# EAGLE library part ATSAM3S4C/2C/1C_100PIN (library Taylor)
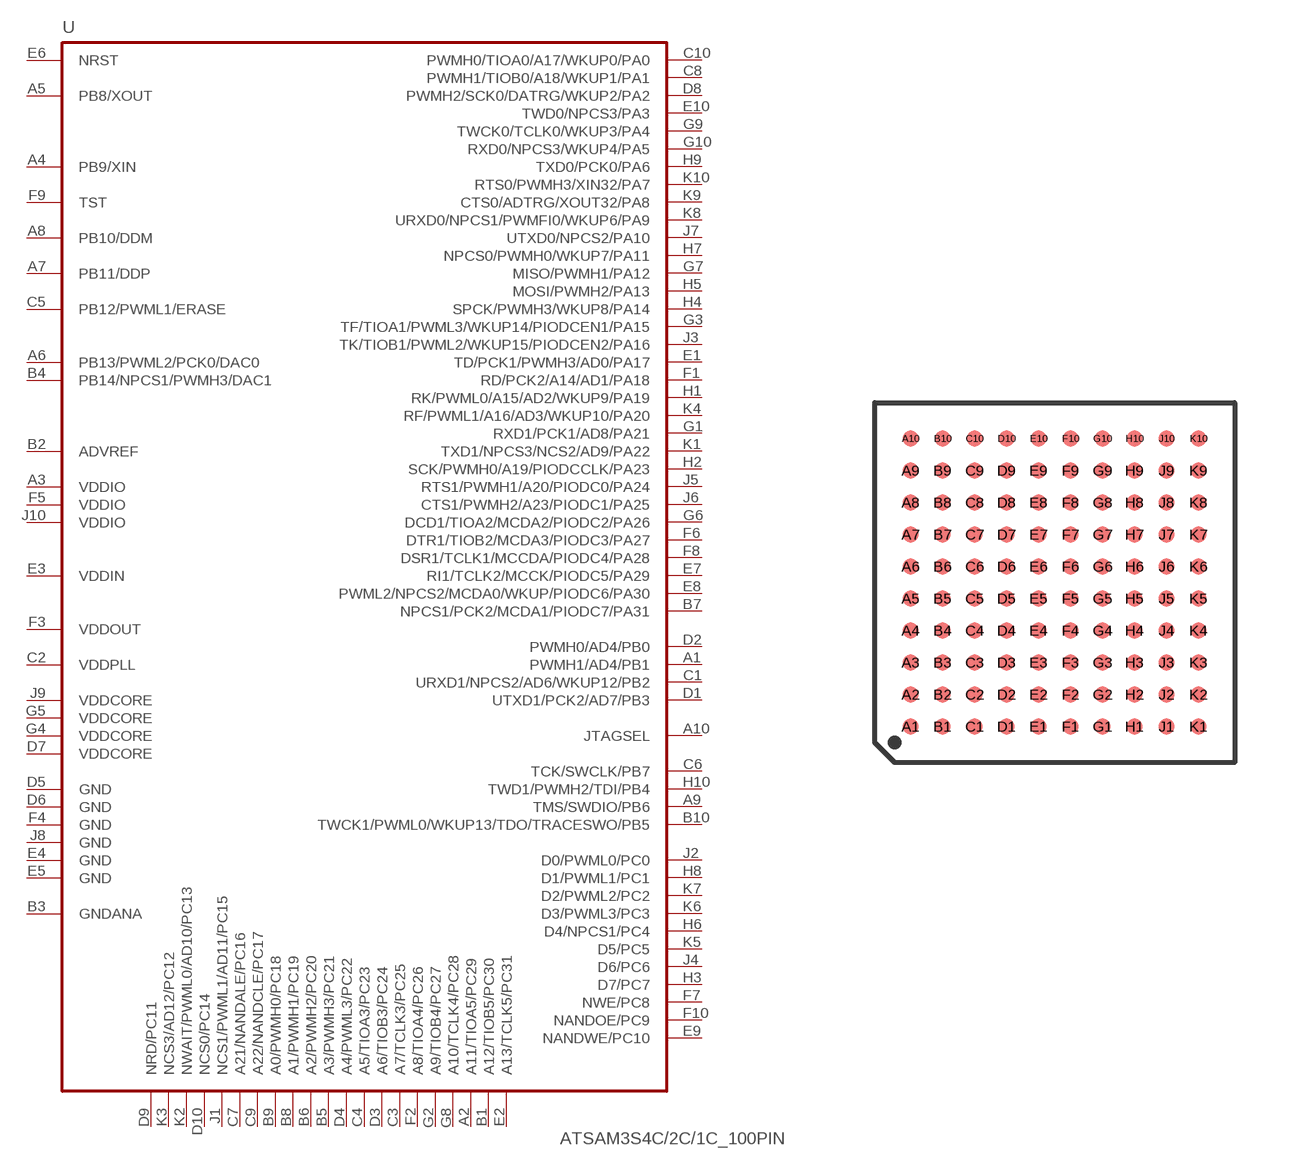
[diagram p24: symbol with the pads of BGA100-0.8-9X9; footprint BGA100-0.8-9X9]

Designator prefix -

## ATSAM3S4C/2C/1C_100PINBGA100  [BGA100-0.8-9X9]
A1  PWMH1/AD4/PB1
A2  A11/TIOA5/PC29
A3  VDDIO  pwr
A4  PB9/XIN
A5  PB8/XOUT
A6  PB13/PWML2/PCK0/DAC0
A7  PB11/DDP
A8  PB10/DDM
A9  TMS/SWDIO/PB6
A10  JTAGSEL
B1  A12/TIOB5/PC30
B2  ADVREF
B3  GNDANA  pwr
B4  PB14/NPCS1/PWMH3/DAC1
B5  A3/PWMH3/PC21
B6  A2/PWMH2/PC20
B7  NPCS1/PCK2/MCDA1/PIODC7/PA31
B8  A1/PWMH1/PC19
B9  A0/PWMH0/PC18
B10  TWCK1/PWML0/WKUP13/TDO/TRACESWO/PB5
C1  URXD1/NPCS2/AD6/WKUP12/PB2
C2  VDDPLL  pwr
C3  A7/TCLK3/PC25
C4  A5/TIOA3/PC23
C5  PB12/PWML1/ERASE
C6  TCK/SWCLK/PB7
C7  A21/NANDALE/PC16
C8  PWMH1/TIOB0/A18/WKUP1/PA1
C9  A22/NANDCLE/PC17
C10  PWMH0/TIOA0/A17/WKUP0/PA0
D1  UTXD1/PCK2/AD7/PB3
D2  PWMH0/AD4/PB0
D3  A6/TIOB3/PC24
D4  A4/PWML3/PC22
D5  GND  pwr
D6  GND  pwr
D7  VDDCORE  pwr
D8  PWMH2/SCK0/DATRG/WKUP2/PA2
D9  NRD/PC11
D10  NCS0/PC14
E1  TD/PCK1/PWMH3/AD0/PA17
E2  A13/TCLK5/PC31
E3  VDDIN  pwr
E4  GND  pwr
E5  GND  pwr
E6  NRST
E7  RI1/TCLK2/MCCK/PIODC5/PA29
E8  PWML2/NPCS2/MCDA0/WKUP/PIODC6/PA30
E9  NANDWE/PC10
E10  TWD0/NPCS3/PA3
F1  RD/PCK2/A14/AD1/PA18
F2  A8/TIOA4/PC26
F3  VDDOUT  pwr
F4  GND  pwr
F5  VDDIO  pwr
F6  DTR1/TIOB2/MCDA3/PIODC3/PA27
F7  NWE/PC8
F8  DSR1/TCLK1/MCCDA/PIODC4/PA28
F9  TST
F10  NANDOE/PC9
G1  RXD1/PCK1/AD8/PA21
G2  A9/TIOB4/PC27
G3  TF/TIOA1/PWML3/WKUP14/PIODCEN1/PA15
G4  VDDCORE  pwr
G5  VDDCORE  pwr
G6  DCD1/TIOA2/MCDA2/PIODC2/PA26
G7  MISO/PWMH1/PA12
G8  A10/TCLK4/PC28
G9  TWCK0/TCLK0/WKUP3/PA4
G10  RXD0/NPCS3/WKUP4/PA5
H1  RK/PWML0/A15/AD2/WKUP9/PA19
H2  SCK/PWMH0/A19/PIODCCLK/PA23
H3  D7/PC7
H4  SPCK/PWMH3/WKUP8/PA14
H5  MOSI/PWMH2/PA13
H6  D4/NPCS1/PC4
H7  NPCS0/PWMH0/WKUP7/PA11
H8  D1/PWML1/PC1
H9  TXD0/PCK0/PA6
H10  TWD1/PWMH2/TDI/PB4
J1  NCS1/PWML1/AD11/PC15
J2  D0/PWML0/PC0
J3  TK/TIOB1/PWML2/WKUP15/PIODCEN2/PA16
J4  D6/PC6
J5  RTS1/PWMH1/A20/PIODC0/PA24
J6  CTS1/PWMH2/A23/PIODC1/PA25
J7  UTXD0/NPCS2/PA10
J8  GND  pwr
J9  VDDCORE  pwr
J10  VDDIO  pwr
K1  TXD1/NPCS3/NCS2/AD9/PA22
K2  NWAIT/PWML0/AD10/PC13
K3  NCS3/AD12/PC12
K4  RF/PWML1/A16/AD3/WKUP10/PA20
K5  D5/PC5
K6  D3/PWML3/PC3
K7  D2/PWML2/PC2
K8  URXD0/NPCS1/PWMFI0/WKUP6/PA9
K9  CTS0/ADTRG/XOUT32/PA8
K10  RTS0/PWMH3/XIN32/PA7

## Footprint BGA100-0.8-9X9 (pad centres in mm)
smd 0.4 x 0.4: A1 -3.6,-3.6; A2 -3.6,-2.8; A3 -3.6,-2; A4 -3.6,-1.2; A5 -3.6,-0.4; A6 -3.6,0.4; A7 -3.6,1.2; A8 -3.6,2; A9 -3.6,2.8; A10 -3.6,3.6; B1 -2.8,-3.6; B2 -2.8,-2.8; B3 -2.8,-2; B4 -2.8,-1.2; B5 -2.8,-0.4; B6 -2.8,0.4; B7 -2.8,1.2; B8 -2.8,2; B9 -2.8,2.8; B10 -2.8,3.6; C1 -2,-3.6; C2 -2,-2.8; C3 -2,-2; C4 -2,-1.2; C5 -2,-0.4; C6 -2,0.4; C7 -2,1.2; C8 -2,2; C9 -2,2.8; C10 -2,3.6; D1 -1.2,-3.6; D2 -1.2,-2.8; D3 -1.2,-2; D4 -1.2,-1.2; D5 -1.2,-0.4; D6 -1.2,0.4; D7 -1.2,1.2; D8 -1.2,2; D9 -1.2,2.8; D10 -1.2,3.6; E1 -0.4,-3.6; E2 -0.4,-2.8; E3 -0.4,-2; E4 -0.4,-1.2; E5 -0.4,-0.4; E6 -0.4,0.4; E7 -0.4,1.2; E8 -0.4,2; E9 -0.4,2.8; E10 -0.4,3.6; F1 0.4,-3.6; F2 0.4,-2.8; F3 0.4,-2; F4 0.4,-1.2; F5 0.4,-0.4; F6 0.4,0.4; F7 0.4,1.2; F8 0.4,2; F9 0.4,2.8; F10 0.4,3.6; G1 1.2,-3.6; G2 1.2,-2.8; G3 1.2,-2; G4 1.2,-1.2; G5 1.2,-0.4; G6 1.2,0.4; G7 1.2,1.2; G8 1.2,2; G9 1.2,2.8; G10 1.2,3.6; H1 2,-3.6; H2 2,-2.8; H3 2,-2; H4 2,-1.2; H5 2,-0.4; H6 2,0.4; H7 2,1.2; H8 2,2; H9 2,2.8; H10 2,3.6; J1 2.8,-3.6; J2 2.8,-2.8; J3 2.8,-2; J4 2.8,-1.2; J5 2.8,-0.4; J6 2.8,0.4; J7 2.8,1.2; J8 2.8,2; J9 2.8,2.8; J10 2.8,3.6; K1 3.6,-3.6; K2 3.6,-2.8; K3 3.6,-2; K4 3.6,-1.2; K5 3.6,-0.4; K6 3.6,0.4; K7 3.6,1.2; K8 3.6,2; K9 3.6,2.8; K10 3.6,3.6